# EAGLE library part WL-SFTD_2828 (library WL-SFTD)
WL-SFTD SMT Full-color Top LED Diffused Characteristics Industry standard size 3535 Matte and non-reflective surface High reliability Low energy consumtion Low current requirement MSL 5a Water-resistant IPx6 Applications Outdoor Full-Color Video Screen Decorative lighting Entertainment LED display screen Indicator Backlight <https://www.we-online.com/catalog/media/o135756v209%20Gruppe_WL-SFTD_1616_2022_2828_2828.jpg> Details see: www.we-online.com/catalog/WL-SFTD <www.we-online.com/catalog/WL-SFTD/?utm_source=eagle_model&utm_medium=description_link&utm_campaign=eisos_eagle> Updated by Ella Wu 2022-06-20 2022 (C) Wurth Elektronik
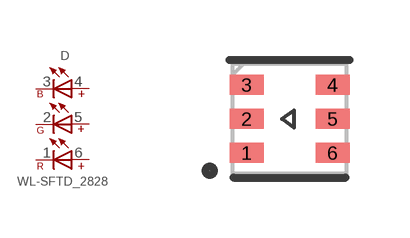
[diagram p0: symbol with the pads of WL-SFTD_2828; footprint WL-SFTD_2828]

Designator prefix D

## WL-SFTD_2828_150282M153310 (CHIP-TECHNOLOGY: AlInGaP + GaN; DATASHEET-URL: https://www.we-online.com/redexpert/spec/150282M153310?ae; DOMINANT-WAVELENGTH: 625nm@Red / 520nm@Green / 470nm@Blue; EMITTING-COLOR: Red & Green & Blue; FORWARD-VOLTAGE: 2V@Red / 3.2V@Green / 3.2V@Blue; LUMINOUS-INTENSITY: 800nm@Red / 1900mcd@Green / 400mcd@Blue; MOUNT: SMT; PART-NUMBER: 150282M153310; PEAK-WAVELENGTH: 635nm@Red / 515nm@Green / 465nm@Blue; VALUE: 150282M153310; VIEWING-ANGLE: 120°)  [WL-SFTD_2828]
1  R-  pas
2  G-  pas
3  B-  pas
4  B+  pas
5  G+  pas
6  R+  pas

## Footprint WL-SFTD_2828 (pad centres in mm)
WL-SFTD SMT Full-color Top LED Diffused Size: 2828, SMT, 6pins 2.8X2.8X2.5mm(LXWXH)
smd 0.85 x 0.5: 1 -1.075,-0.85; 2 -1.075,0; 3 -1.075,0.85; 4 1.075,0.85; 5 1.075,0; 6 1.075,-0.85